# EAGLE library part ESP32SUPERMINI_ESP32-SUPERMINI (library GPIO)
WEMOS D1 mini: Mini Wi-Fi Board based on ESP-8266 device More details can be found here: https://www.wemos.cc/product/d1-mini.html Click here to find device on ebay.com <http://www.ebay.com/sch/wemos+d1+mini+nodemcu>
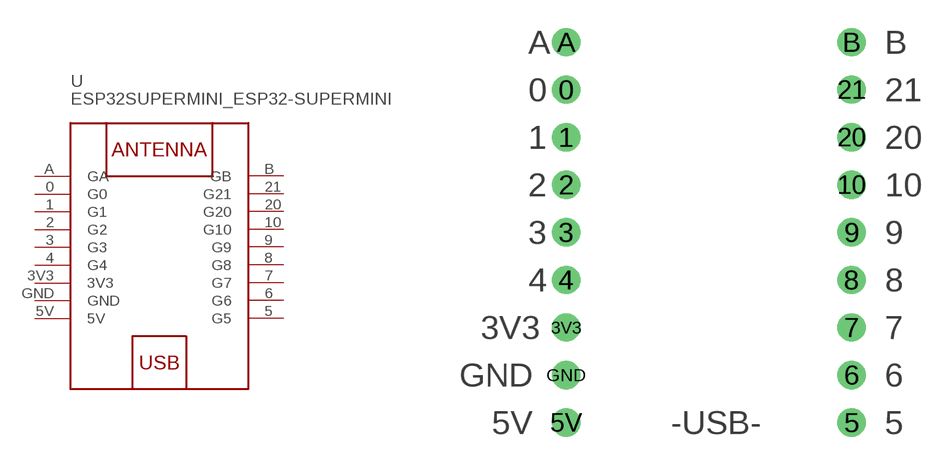
[diagram p2: symbol with the pads of ESP32SUPERMINI_ESP32-SUPERMINI; footprint ESP32SUPERMINI_ESP32-SUPERMINI]

Designator prefix -

## ESP32SUPERMINI_ESP32-SUPERMINI  [ESP32SUPERMINI_ESP32-SUPERMINI]
0  G0
1  G1
2  G2
3  G3
3V3  3V3  pwr
4  G4
5  G5
5V  5V  pwr
6  G6
7  G7
8  G8
9  G9
10  G10
20  G20
21  G21
A  GA
B  GB
GND  GND  pwr

## Footprint ESP32SUPERMINI_ESP32-SUPERMINI (pad centres in mm)
WEMOS D1 mini: Mini Wi-Fi Board based on ESP-8266 device
drill 1: 0 -11.43,9.525; 1 -11.43,6.985; 2 -11.43,4.445; 3 -11.43,1.905; 3V3 -11.43,-3.175; 4 -11.43,-0.635; 5 3.81,-8.255; 5V -11.43,-8.255; 6 3.81,-5.715; 7 3.81,-3.175; 8 3.81,-0.635; 9 3.81,1.905; 10 3.81,4.445; 20 3.81,6.985; 21 3.81,9.525; A -11.43,12.065; B 3.81,12.065; GND -11.43,-5.715